# Altium footprint library 05E_Fuse.PcbLib: 3 footprints
Each footprint in its own frame and in the unit in brackets; x right, y up, seen from the top. Pads: shape width x height; smd on the part's side, far side on the other; paste and mask are expansions set on the pad; w line width, h text height; cw(c..) or ccw(c..) is an arc to the next point about the centre after c.
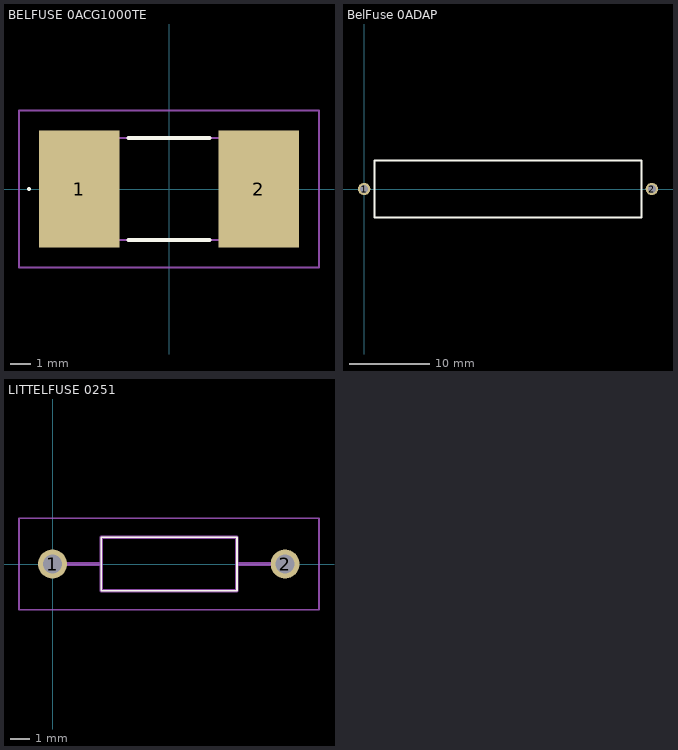
[diagram p0: the footprints below, top view; thin cyan lines are the x and y axes]

## BELFUSE 0ACG1000TE [mm]
pads (2):
  rect 4x5.8 smd: 1(-4.45,0) 2(4.45,0)
Top Overlay:
  lines w0.1: -7,0 ccw(c-6.95,0) -6.9,0 ccw(c-6.95,0) -7,0
  lines w0.2: -2,-2.525 2,-2.525 ; -2,2.525 2,2.525
Top Courtyard:
  lines w0.1: -5.6,-2.525 5.6,-2.525 5.6,2.525 -5.6,2.525 -5.6,-2.525
Bottom Assembly:
  lines w0.1: -7.45,-3.9 7.45,-3.9 7.45,3.9 -7.45,3.9 -7.45,-3.9
3D body "0ACG-1000-TE.STEP": height 5.05, standoff 0.01, extent -5.7,-2.54 5.7,2.51

## BelFuse 0ADAP [mil]
pads (2):
  round 60 hole 39.37: 1(0,0) 2(1400,0)
Top Overlay:
  lines w10: 50.39,-137.8 1349.61,-137.8 1349.61,137.8 50.39,137.8 50.39,-137.8
  text ".Comment" at 100,-25 h60

## LITTELFUSE 0251 [mm]
pads (2):
  round 1.515 hole 1.01: 1(0,0) 2(12.192,0)
Top Overlay:
  lines w0.1: 2.552,-1.4 9.662,-1.4 9.662,1.4 2.552,1.4 2.552,-1.4
Top Courtyard:
  lines w0.2: 0,0 2.54,0 ; 9.662,0 12.202,0 ; 2.552,-1.4 9.662,-1.4 9.662,1.4 2.552,1.4 2.552,-1.4
Bottom Assembly:
  lines w0.1: -1.758,-2.4 -1.758,2.4 13.97,2.4 13.97,-2.4 -1.758,-2.4